# Altium schematic symbol library MP008288.SchLib: 1 symbol
Pins are listed as number, name and electrical type; pins without a type are passive.

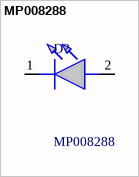
[diagram p0: symbol MP008288]

## MP008288
designator D?
LED, Green, SMD, 0603 [1608 Metric], 20 mA, 2.3 V, 577 nm; Manufacturer_Name: Multicomp Pro; Geometry.Height: 0.6mm; Farnell Part Number: *; Farnell Price/Stock: *; Manufacturer_Part_Number: MP008288; Datasheet Link: *
footprint LEDC1608X60N
pins: 1 K, 2 A